# Altium footprint library DF13-10P-1.25H(21).PcbLib: 1 footprints
Each footprint in its own frame and in the unit in brackets; x right, y up, seen from the top. Pads: shape width x height; smd on the part's side, far side on the other; paste and mask are expansions set on the pad; w line width, h text height; cw(c..) or ccw(c..) is an arc to the next point about the centre after c.
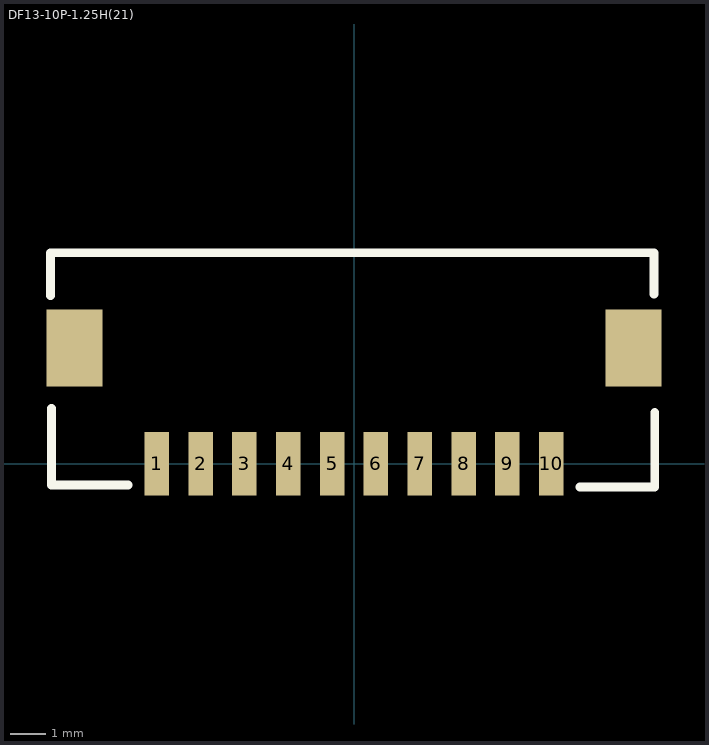
[diagram p0: the footprint, top view; thin cyan lines are the x and y axes]

## DF13-10P-1.25H(21) [mm] "10 pos, 1.25mm pitch DF13 connector (H125973CT-ND)"
height 3.6
pads (12):
  rect 0.7x1.8 smd: 1(-5.625,0) 2(-4.375,0) 3(-3.125,0) 4(-1.875,0) 5(-0.625,0) 6(0.625,0) 7(1.875,0) 8(3.125,0) 9(4.375,0) 10(5.625,0)
  rect 1.6x2.2 smd: ""(-7.975,3.3) ""(7.975,3.3)
Top Overlay:
  lines w0.254: -8.661,4.794 -8.661,6.017 8.553,6.017 8.553,4.832 ; -8.63,1.581 -8.63,-0.61 -6.452,-0.61 ; 6.452,-0.66 8.579,-0.66 8.579,1.467
3D body "DF13-10S-1.25C.stp": height 3.46, standoff 0.26, extent -7.057,2.68 7.093,6.68
3D body "DF13A-10P-1.25H.stp": height 3.58, standoff -0.02, extent -8.55,-0.582 8.6,5.918